# EAGLE library part 5584АП3 (library std-logic-5584series)
АЕЯР.431200.209 ТУ 5584АП3У, 5584АП3АУ - два четырехканальных формирователя с тремя состояниями и инверсией на выходе.
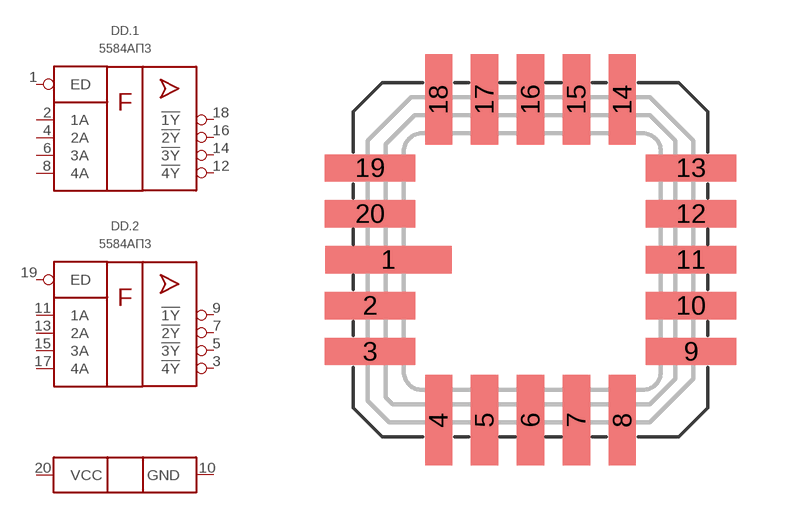
[diagram p0: symbol with the pads of 5121.20-A; footprint 5121.20-A]

Designator prefix DD; gates .1=5584АП3 .2=5584АП3 G$3=5584_PWR

## 5584АП3У  [5121.20-A]
1  .1:ED  in
2  .1:1A  in
3  .2:!4Y  out
4  .1:2A  in
5  .2:!3Y  out
6  .1:3A  in
7  .2:!2Y  out
8  .1:4A  in
9  .2:!1Y  out
10  G$3:GND  pwr
11  .2:1A  in
12  .1:!4Y  out
13  .2:2A  in
14  .1:!3Y  out
15  .2:3A  in
16  .1:!2Y  out
17  .2:4A  in
18  .1:!1Y  out
19  .2:ED  in
20  G$3:VCC  pwr

## 5584АП3АУ  [5121.20-A]
Pads as for 5121.20-A

## Footprint 5121.20-A (pad centres in mm)
smd 3.5 x 0.75: 1 -3.925,0
smd 2.5 x 0.75: 2 -4.435,-1.27; 3 -4.435,-2.54; 9 4.435,-2.54; 10 4.435,-1.27; 11 4.435,0; 12 4.435,1.27; 13 4.435,2.54; 19 -4.435,2.54; 20 -4.435,1.27
smd 0.75 x 2.5: 4 -2.54,-4.435; 5 -1.27,-4.435; 6 0,-4.435; 7 1.27,-4.435; 8 2.54,-4.435; 14 2.54,4.435; 15 1.27,4.435; 16 0,4.435; 17 -1.27,4.435; 18 -2.54,4.435